# Altium footprint library SAMTEC_LSS-110-01-F-DV-A.PcbLib: 1 footprints
Each footprint in its own frame and in the unit in brackets; x right, y up, seen from the top. Pads: shape width x height; smd on the part's side, far side on the other; paste and mask are expansions set on the pad; w line width, h text height; cw(c..) or ccw(c..) is an arc to the next point about the centre after c.
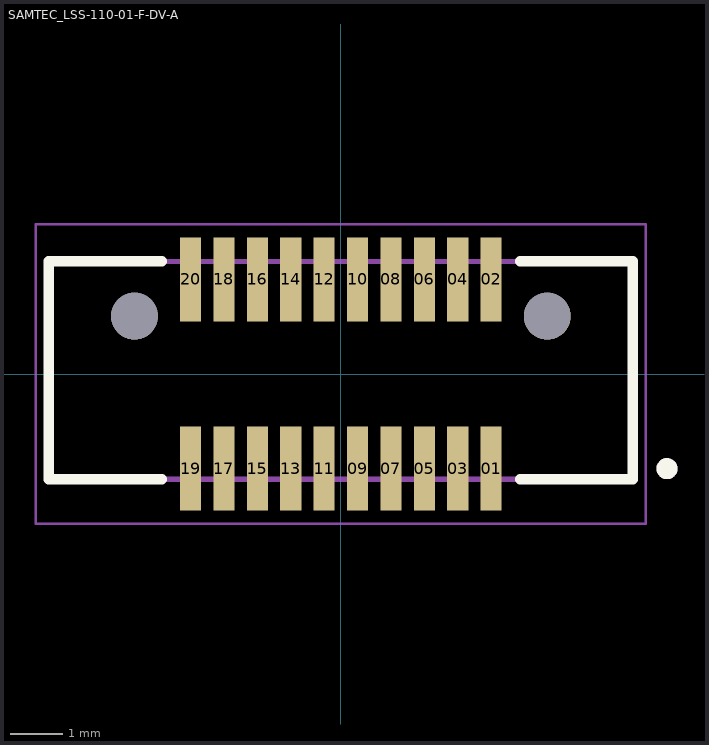
[diagram p0: the footprint, top view; thin cyan lines are the x and y axes]

## SAMTEC_LSS-110-01-F-DV-A [mm]
pads (22):
  rect 0.4x1.6 smd: 01(2.857,-1.8) 02(2.857,1.8) 03(2.222,-1.8) 04(2.222,1.8) 05(1.587,-1.8) 06(1.587,1.8) 07(0.953,-1.8) 08(0.953,1.8) 09(0.318,-1.8) 10(0.318,1.8) 11(-0.318,-1.8) 12(-0.318,1.8) 13(-0.953,-1.8) 14(-0.953,1.8) 15(-1.587,-1.8) 16(-1.587,1.8) 17(-2.222,-1.8) 18(-2.222,1.8) 19(-2.857,-1.8) 20(-2.857,1.8)
  round 0.89 hole 0.89 unplated: ""(-3.925,1.1) ""(3.925,1.1)
Top Overlay:
  circle w0.2: c6.2,-1.8 r0.1
  lines w0.2: -3.407,-2 -5.55,-2 -5.55,2.14 -3.407,2.14 ; 3.407,-2 5.55,-2 5.55,2.14 3.407,2.14
Mechanical 13:
  circle w0.2: c6.2,-1.8 r0.1
  lines w0.1: -5.55,-2 -5.55,2.14 ; -5.55,-2 5.55,-2 ; -5.55,-2 -5.55,2.14 ; -5.55,2.14 5.55,2.14 ; -5.55,2.14 5.55,2.14 ; 5.55,-2 5.55,2.14 ; 5.55,-2 5.55,2.14
Mechanical 15:
  lines w0.05: -5.8,-2.85 -5.8,2.85 5.8,2.85 5.8,-2.85 -5.8,-2.85